# Altium schematic symbol library Schlib1.SchLib: 12 symbols
Pins are listed as number, name and electrical type; pins without a type are passive.

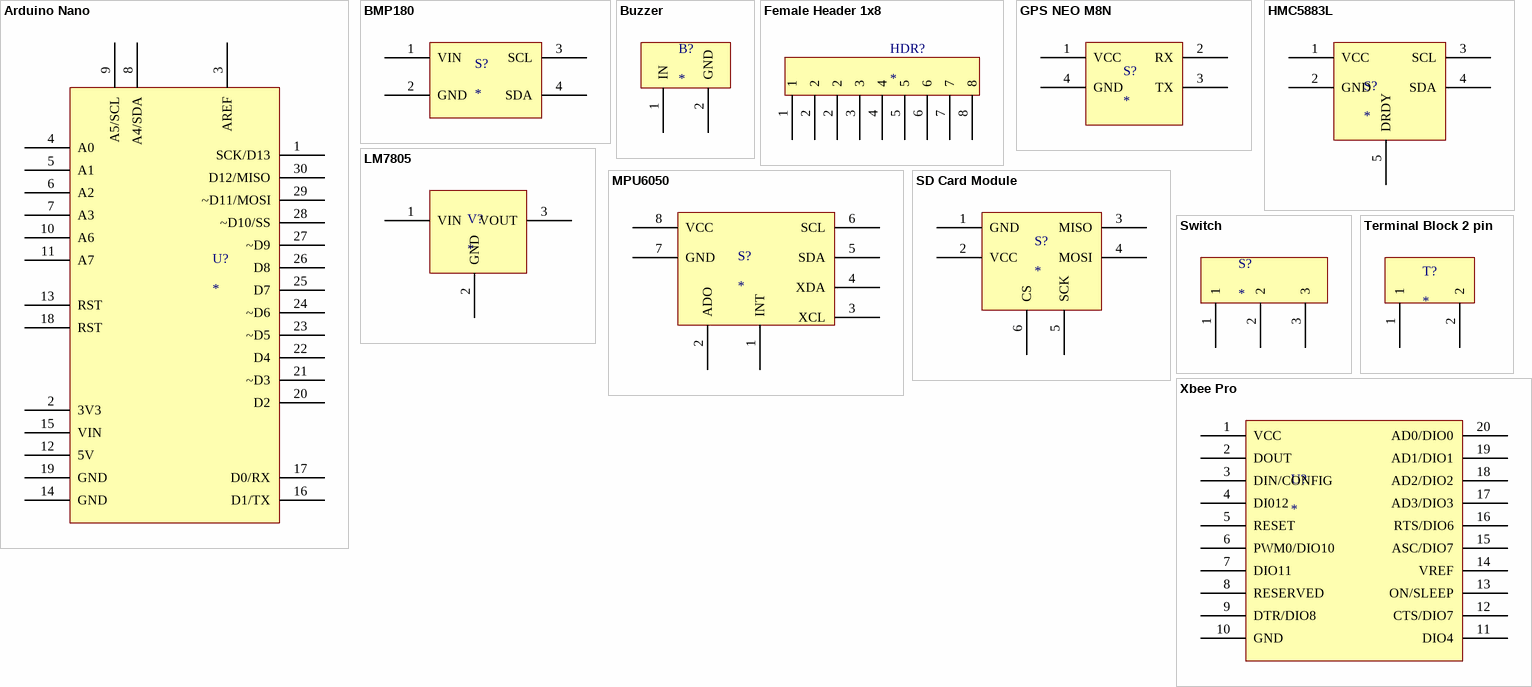
[diagram p0: symbols Arduino Nano to Xbee Pro]

## Arduino Nano
designator U?
Arduino Nano v3
footprint ARDUINO NANO v3 (Arduino Nano v3)
pins: 1 SCK/D13, 2 3V3 (power), 3 AREF, 4 A0, 5 A1, 6 A2, 7 A3, 8 A4/SDA, 9 A5/SCL, 10 A6, 11 A7, 12 5V, 13 RST, 14 GND (power), 15 VIN (power), 16 D1/TX, 17 D0/RX, 18 RST, 19 GND (power), 20 D2, 21 ~D3, 22 D4, 23 ~D5, 24 ~D6, 25 D7, 26 D8, 27 ~D9, 28 ~D10/SS, 29 ~D11/MOSI, 30 D12/MISO

## BMP180
designator S?
BMP180 Pressure Sensor
footprint BMP180 (BMP180 PCB)
pins: 1 VIN, 2 GND, 3 SCL, 4 SDA

## Buzzer
designator B?
Buzzer audio
footprint BUZZER
pins: 1 IN, 2 GND

## Female Header 1x8
designator HDR?
footprint Female Header 1x8
pins: 1, 2, 2, 3, 4, 5, 6, 7, 8

## GPS NEO M8N
designator S?
GPS NEO M8N
footprint GPS NEO M8N
pins: 1 VCC, 2 RX, 3 TX, 4 GND

## HMC5883L
designator S?
HMC58883L Digital Compass
footprint HMC5883L
pins: 1 VCC, 2 GND, 3 SCL, 4 SDA, 5 DRDY

## LM7805
designator V?
LM7805 5V Voltage Regulator
footprint LM7805 Voltage Regulator (LM7805 5V Voltage Regulator DIP)
pins: 1 VIN, 2 GND (power), 3 VOUT

## MPU6050
designator S?
MPU6050 Gyro Sensor PCB
footprint MPU6050 (Female Header 1x8)
pins: 1 INT, 2 ADO, 3 XCL, 4 XDA, 5 SDA, 6 SCL, 7 GND, 8 VCC

## SD Card Module
designator S?
SD Card Module
footprint SD Card Module
pins: 1 GND, 2 VCC, 3 MISO, 4 MOSI, 5 SCK, 6 CS

## Switch
designator S?
Slide Switch 4mm pitch
footprint Switch (Slide Switch)
pins: 1, 2, 3

## Terminal Block 2 pin
designator T?
Terminal Block 2 pin (5mm)
footprint Terminal Block 2 pin (Terminal Block 2 pin (5mm))
pins: 1, 2

## Xbee Pro
designator U?
Xbee Pro 90HP
footprint Xbee
pins: 1 VCC, 2 DOUT, 3 DIN/CONFIG, 4 DI012, 5 RESET, 6 PWM0/DIO10, 7 DIO11, 8 RESERVED, 9 DTR/DIO8, 10 GND, 11 DIO4, 12 CTS/DIO7, 13 ON/SLEEP, 14 VREF, 15 ASC/DIO7, 16 RTS/DIO6, 17 AD3/DIO3, 18 AD2/DIO2, 19 AD1/DIO1, 20 AD0/DIO0